# EAGLE library part MA10-1 (library MyComponents)
Headers & Wire Housing, 1 Row, 10 Position
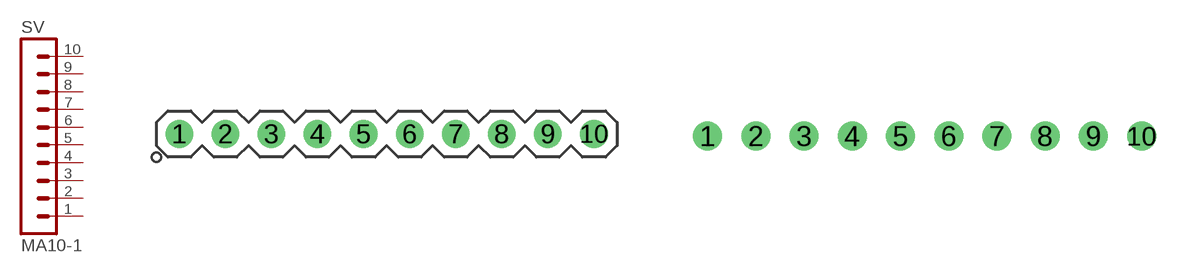
[diagram p6: symbol with the pads of MA10-1; footprints MA10-1, MA10-1-NO-PL]

Designator prefix SV

## MA10-1PL (MOUSER: 649-69190-410HLF)  [MA10-1]
1  1  pas
2  2  pas
3  3  pas
4  4  pas
5  5  pas
6  6  pas
7  7  pas
8  8  pas
9  9  pas
10  10  pas

## MA10-1NO-PL (MOUSER: 649-69190-410HLF)  [MA10-1-NO-PL]
Pads as for MA10-1

## Footprint MA10-1 (pad centres in mm)
PIN HEADER
drill 1.016: 1 -11.43,0; 2 -8.89,0; 3 -6.35,0; 4 -3.81,0; 5 -1.27,0; 6 1.27,0; 7 3.81,0; 8 6.35,0; 9 8.89,0; 10 11.43,0

## Footprint MA10-1-NO-PL (pad centres in mm)
PIN HEADER
drill 1.016: 1 -11.43,0; 2 -8.89,0; 3 -6.35,0; 4 -3.81,0; 5 -1.27,0; 6 1.27,0; 7 3.81,0; 8 6.35,0; 9 8.89,0; 10 11.43,0